# EAGLE library part PGA100* (library mita-akiba)
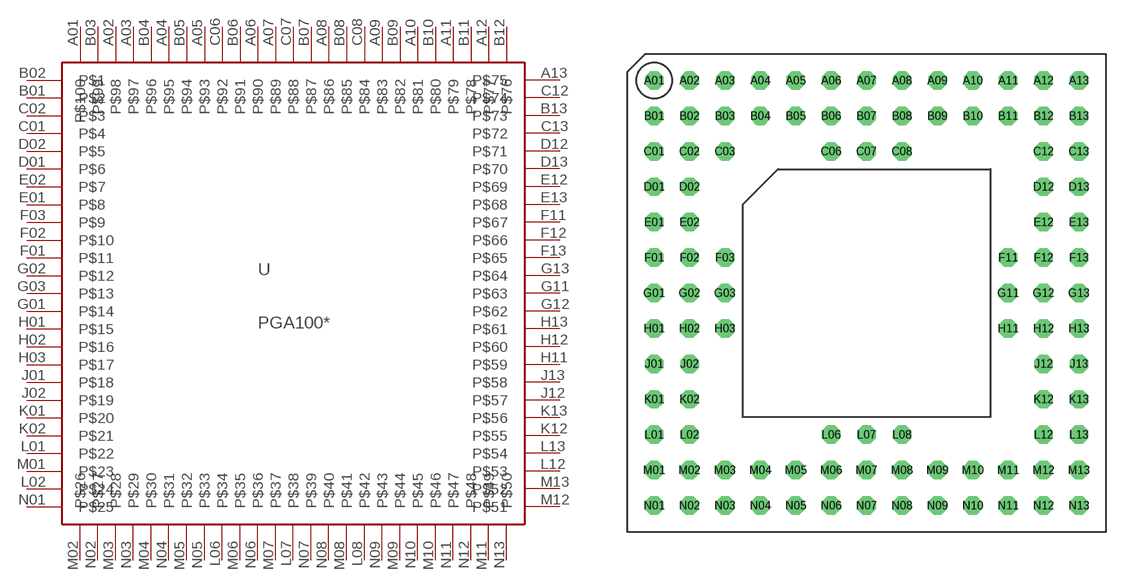
[diagram p28: symbol with the pads of MPGA100; footprint MPGA100]

Designator prefix -

## PGA100MPGA  [MPGA100]
A01  P$100
A02  P$98
A03  P$97
A04  P$95
A05  P$93
A06  P$90
A07  P$89
A08  P$86
A09  P$83
A10  P$81
A11  P$79
A12  P$77
A13  P$75
B01  P$2
B02  P$1
B03  P$99
B04  P$96
B05  P$94
B06  P$91
B07  P$87
B08  P$85
B09  P$82
B10  P$80
B11  P$78
B12  P$76
B13  P$73
C01  P$4
C02  P$3
C06  P$92
C07  P$88
C08  P$84
C12  P$74
C13  P$72
D01  P$6
D02  P$5
D12  P$71
D13  P$70
E01  P$8
E02  P$7
E12  P$69
E13  P$68
F01  P$11
F02  P$10
F03  P$9
F11  P$67
F12  P$66
F13  P$65
G01  P$14
G02  P$12
G03  P$13
G11  P$63
G12  P$62
G13  P$64
H01  P$15
H02  P$16
H03  P$17
H11  P$59
H12  P$60
H13  P$61
J01  P$18
J02  P$19
J12  P$57
J13  P$58
K01  P$20
K02  P$21
K12  P$55
K13  P$56
L01  P$22
L02  P$24
L06  P$34
L07  P$38
L08  P$42
L12  P$53
L13  P$54
M01  P$23
M02  P$26
M03  P$28
M04  P$30
M05  P$32
M06  P$35
M07  P$37
M08  P$41
M09  P$44
M10  P$46
M11  P$49
M12  P$51
M13  P$52
N01  P$25
N02  P$27
N03  P$29
N04  P$31
N05  P$33
N06  P$36
N07  P$39
N08  P$40
N09  P$43
N10  P$45
N11  P$47
N12  P$48
N13  P$50

## Footprint MPGA100 (pad centres in mm)
100 Pin Grid Array
drill 0.813 octagon: A01 -15.24,15.24; A02 -12.7,15.24; A03 -10.16,15.24; A04 -7.62,15.24; A05 -5.08,15.24; A06 -2.54,15.24; A07 0,15.24; A08 2.54,15.24; A09 5.08,15.24; A10 7.62,15.24; A11 10.16,15.24; A12 12.7,15.24; A13 15.24,15.24; B01 -15.24,12.7; B02 -12.7,12.7; B03 -10.16,12.7; B04 -7.62,12.7; B05 -5.08,12.7; B06 -2.54,12.7; B07 0,12.7; B08 2.54,12.7; B09 5.08,12.7; B10 7.62,12.7; B11 10.16,12.7; B12 12.7,12.7; B13 15.24,12.7; C01 -15.24,10.16; C02 -12.7,10.16; C03 -10.16,10.16; C06 -2.54,10.16; C07 0,10.16; C08 2.54,10.16; C12 12.7,10.16; C13 15.24,10.16; D01 -15.24,7.62; D02 -12.7,7.62; D12 12.7,7.62; D13 15.24,7.62; E01 -15.24,5.08; E02 -12.7,5.08; E12 12.7,5.08; E13 15.24,5.08; F01 -15.24,2.54; F02 -12.7,2.54; F03 -10.16,2.54; F11 10.16,2.54; F12 12.7,2.54; F13 15.24,2.54; G01 -15.24,0; G02 -12.7,0; G03 -10.16,0; G11 10.16,0; G12 12.7,0; G13 15.24,0; H01 -15.24,-2.54; H02 -12.7,-2.54; H03 -10.16,-2.54; H11 10.16,-2.54; H12 12.7,-2.54; H13 15.24,-2.54; J01 -15.24,-5.08; J02 -12.7,-5.08; J12 12.7,-5.08; J13 15.24,-5.08; K01 -15.24,-7.62; K02 -12.7,-7.62; K12 12.7,-7.62; K13 15.24,-7.62; L01 -15.24,-10.16; L02 -12.7,-10.16; L06 -2.54,-10.16; L07 0,-10.16; L08 2.54,-10.16; L12 12.7,-10.16; L13 15.24,-10.16; M01 -15.24,-12.7; M02 -12.7,-12.7; M03 -10.16,-12.7; M04 -7.62,-12.7; M05 -5.08,-12.7; M06 -2.54,-12.7; M07 0,-12.7; M08 2.54,-12.7; M09 5.08,-12.7; M10 7.62,-12.7; M11 10.16,-12.7; M12 12.7,-12.7; M13 15.24,-12.7; N01 -15.24,-15.24; N02 -12.7,-15.24; N03 -10.16,-15.24; N04 -7.62,-15.24; N05 -5.08,-15.24; N06 -2.54,-15.24; N07 0,-15.24; N08 2.54,-15.24; N09 5.08,-15.24; N10 7.62,-15.24; N11 10.16,-15.24; N12 12.7,-15.24; N13 15.24,-15.24